# Altium schematic symbol library Analog.SchLib: 10 symbols
Pins are listed as number, name and electrical type; pins without a type are passive.

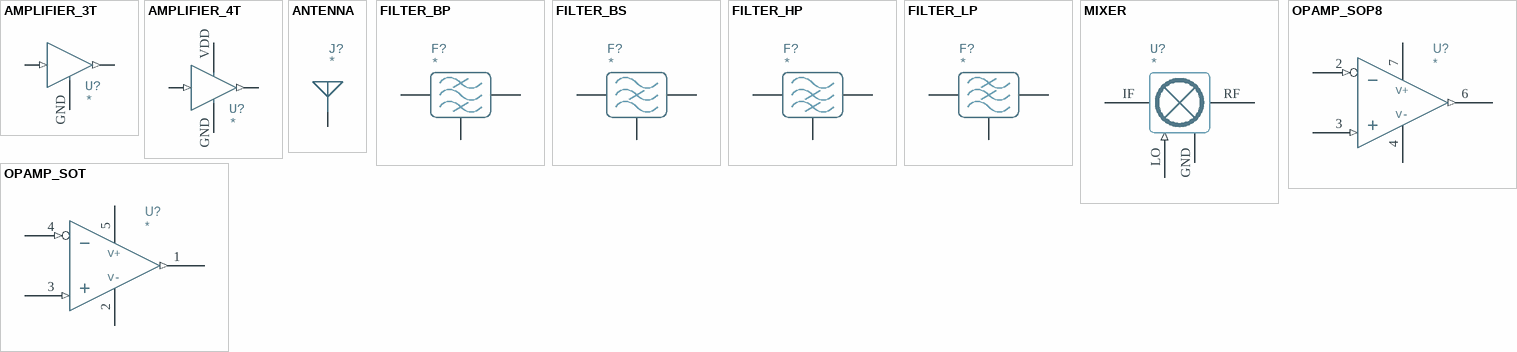
[diagram p0: symbols AMPLIFIER_3T to OPAMP_SOT]

## AMPLIFIER_3T
designator U?
pins: 1 AMP_IN (in), 2 AMP_OUT (out), GND

## AMPLIFIER_4T
designator U?
pins: 1 AMP_IN (in), 2 AMP_OUT (out), GND, VDD

## ANTENNA
designator J?
pins: 1

## FILTER_BP
designator F?
pins: 1 RFIO, 2 RFIO, 3 GND

## FILTER_BS
designator F?
pins: 1 RFIO, 2 RFIO, 3 GND

## FILTER_HP
designator F?
pins: 1 RFIO, 2 RFIO, 3 GND

## FILTER_LP
designator F?
pins: 1 RFIO, 2 RFIO, 3 GND

## MIXER
designator U?
pins: GND, IF, LO (in), RF

## OPAMP_SOP8
designator U?
pins: 2 - (in), 3 + (in), 4 V-, 6 OUT (out), 7 V+

## OPAMP_SOT
designator U?
pins: 1 OUT (out), 2 V-, 3 + (in), 4 - (in), 5 V+